# Altium footprint library Module.PcbLib: 12 footprints
Each footprint in its own frame and in the unit in brackets; x right, y up, seen from the top. Pads: shape width x height; smd on the part's side, far side on the other; paste and mask are expansions set on the pad; w line width, h text height; cw(c..) or ccw(c..) is an arc to the next point about the centre after c.
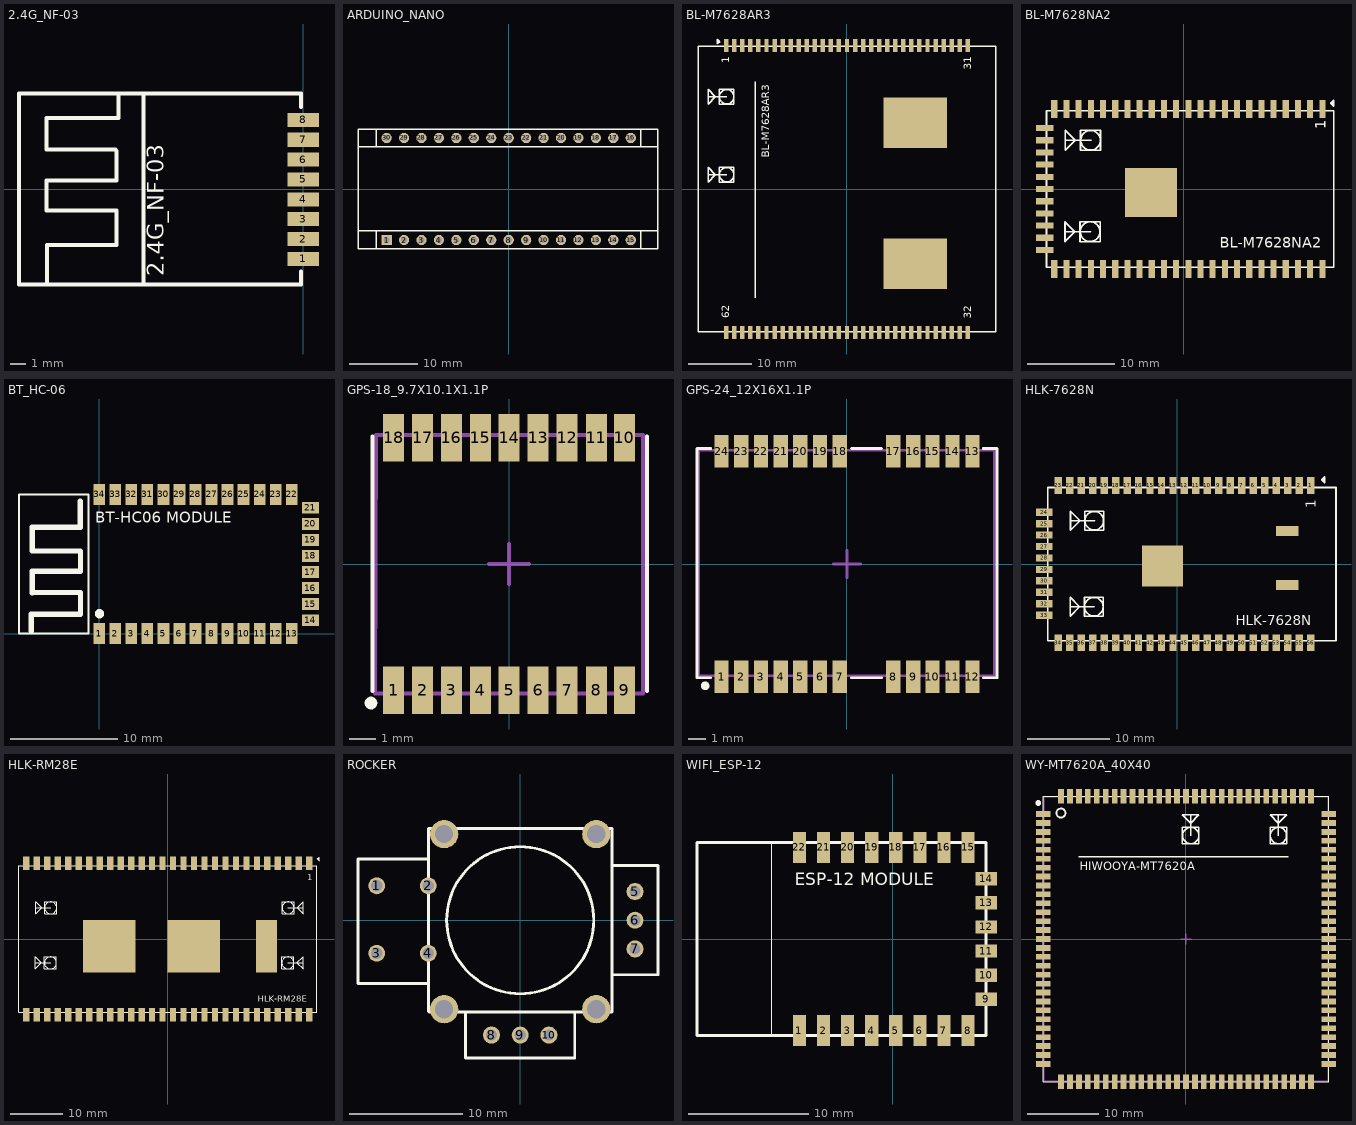
[diagram p0: the footprints below, top view; thin cyan lines are the x and y axes]

## 2.4G_NF-03 [mm] "NRF4L01+ Module"
pads (8):
  rect 2x0.9 smd: 1(0,-4.445) 2(0,-3.175) 3(0,-1.905) 4(0,-0.635) 5(0,0.635) 6(0,1.905) 7(0,3.175) 8(0,4.445)
Top Overlay:
  lines w0.254: -16.408,-6.02 -16.408,-3.556 -11.938,-3.556 -11.938,-1.346 -16.434,-1.346 -16.434,0.559 -11.938,0.559 -11.938,2.464 -12.014,2.54 -16.434,2.54 -16.434,4.572 -11.836,4.572 -11.836,6.121 ; -10.211,-6.071 -10.211,6.121 ; -0.152,-5.258 -0.152,-6.071 -18.186,-6.071 -18.186,6.121 -0.152,6.121 -0.152,5.258
  text "2.4G_NF-03" at -8.585,-5.563 h1.8

## ARDUINO_NANO [mm]
pads (30):
  rect 1.5x1.5 hole 0.9: 1(-17.78,-7.429)
  round 1.5 hole 0.9: 2(-15.24,-7.429) 3(-12.7,-7.429) 4(-10.16,-7.429) 5(-7.62,-7.429) 6(-5.08,-7.429) 7(-2.54,-7.429) 8(0,-7.429) 9(2.54,-7.429) 10(5.08,-7.429) 11(7.62,-7.429) 12(10.16,-7.429) 13(12.7,-7.429) 14(15.24,-7.429) 15(17.78,-7.429) 16(17.78,7.429) 17(15.24,7.429) 18(12.7,7.429) 19(10.16,7.429) 20(7.62,7.429) 21(5.08,7.429) 22(2.54,7.429) 23(0,7.429) 24(-2.54,7.429) 25(-5.08,7.429) 26(-7.62,7.429) 27(-10.16,7.429) 28(-12.7,7.429) 29(-15.24,7.429) 30(-17.78,7.429)
Top Overlay:
  lines w0.2: -21.946,-8.7 -19.05,-8.7 19.05,-8.7 21.742,-8.7 ; -21.946,8.7 -17.145,8.7 21.742,8.7
  lines w0.203: -21.946,-8.7 -21.946,8.7 ; -21.946,-6.058 21.742,-6.058 ; -21.946,6.134 21.742,6.134 ; -19.279,-8.7 -19.279,-6.058 ; -19.279,6.134 -19.279,8.7 ; 19.202,-8.7 19.202,-6.058 ; 19.202,6.134 19.202,8.7 ; 21.742,-8.7 21.742,8.7

## BL-M7628AR3 [mm]
pads (64):
  rect 0.7x2.035 smd: 1(-19.05,22.65) 2(-17.78,22.65) 3(-16.51,22.65) 4(-15.24,22.65) 5(-13.97,22.65) 6(-12.7,22.65) 7(-11.43,22.65) 8(-10.16,22.65) 9(-8.89,22.65) 10(-7.62,22.65) 11(-6.35,22.65) 12(-5.08,22.65) 13(-3.81,22.65) 14(-2.54,22.65) 15(-1.27,22.65) 16(0,22.65) 17(1.27,22.65) 18(2.54,22.65) 19(3.81,22.65) 20(5.08,22.65) 21(6.35,22.65) 22(7.62,22.65) 23(8.89,22.65) 24(10.16,22.65) 25(11.43,22.65) 26(12.7,22.65) 27(13.97,22.65) 28(15.24,22.65) 29(16.51,22.65) 30(17.78,22.65) 31(19.05,22.65) 32(19.05,-22.65) 33(17.78,-22.65) 34(16.51,-22.65) 35(15.24,-22.65) 36(13.97,-22.65) 37(12.7,-22.65) 38(11.43,-22.65) 39(10.16,-22.65) 40(8.89,-22.65) 41(7.62,-22.65) 42(6.35,-22.65) 43(5.08,-22.65) 44(3.81,-22.65) 45(2.54,-22.65) 46(1.27,-22.65) 47(0,-22.65) 48(-1.27,-22.65) 49(-2.54,-22.65) 50(-3.81,-22.65) 51(-5.08,-22.65) 52(-6.35,-22.65) 53(-7.62,-22.65) 54(-8.89,-22.65) 55(-10.16,-22.65) 56(-11.43,-22.65) 57(-12.7,-22.65) 58(-13.97,-22.65) 59(-15.24,-22.65) 60(-16.51,-22.65) 61(-17.78,-22.65) 62(-19.05,-22.65)
  rect 10x8 smd: ""(10.75,-11.8) ""(10.75,10.45)
Top Overlay:
  circle w0.203: c-19,14.55 r1.131
  circle w0.203: c-19,2.25 r1.131
  region: -20.45,23.45 -20.45,23.1 -20.25,23.1 -20.1,23.25 -20.275,23.425
  lines w0.203: -18.95,2.25 -21.9,2.25 ; -18.95,14.55 -21.9,14.55 ; -14.45,-17.15 -14.45,16.9 ; -21.9,2.25 -21.9,3.4 -20.75,2.25 -21.9,1.1 -21.9,2.25 ; -21.9,14.55 -21.9,13.4 -20.75,14.55 -21.9,15.7 -21.9,14.55 ; -23.5,-22.5 -23.5,22.5 23.5,22.5 23.5,-22.5 -23.5,-22.5 ; -20.45,22.9 -20.1,23.25 -20.45,23.6 -20.45,22.9 ; -20.15,1.1 -19,1.1 -17.85,1.1 -17.85,3.4 -20.15,3.4 -20.15,1.1 ; -20.15,13.4 -20.15,15.7 -17.85,15.7 -17.85,13.4 -19,13.4 -20.15,13.4
  text "BL-M7628AR3" at -12.25,4.9 h1.2
  text "62" at -18.6,-20.4 h1.2
  text "32" at 19.6,-20.463 h1.2
  text "31" at 19.6,18.8 h1.2
  text "1" at -18.6,19.868 h1.2

## BL-M7628NA2 [mm]
pads (58):
  rect 0.7x2.035 smd: 1(15.954,9.197) 2(14.531,9.197) 3(13.131,9.197) 4(11.731,9.197) 5(10.331,9.197) 6(8.931,9.197) 7(7.531,9.197) 8(6.131,9.197) 9(4.731,9.197) 10(3.331,9.197) 11(1.931,9.197) 12(0.531,9.197) 13(-0.869,9.197) 14(-2.269,9.197) 15(-3.669,9.197) 16(-5.069,9.197) 17(-6.469,9.197) 18(-7.869,9.197) 19(-9.269,9.197) 20(-10.669,9.197) 21(-12.069,9.197) 22(-13.469,9.197) 23(-14.869,9.197) 35(-14.869,-9.197) 36(-13.469,-9.197) 37(-12.069,-9.197) 38(-10.669,-9.197) 39(-9.269,-9.197) 40(-7.869,-9.197) 41(-6.469,-9.197) 42(-5.069,-9.197) 43(-3.669,-9.197) 44(-2.269,-9.197) 45(-0.869,-9.197) 46(0.531,-9.197) 47(1.931,-9.197) 48(3.331,-9.197) 49(4.731,-9.197) 50(6.131,-9.197) 51(7.531,-9.197) 52(8.931,-9.197) 53(10.331,-9.197) 54(11.731,-9.197) 55(13.131,-9.197) 56(14.531,-9.197) 57(15.954,-9.197)
  rect 2.035x0.7 smd: 24(-15.954,6.997) 25(-15.954,5.597) 26(-15.954,4.197) 27(-15.954,2.797) 28(-15.954,1.397) 29(-15.954,-0.003) 30(-15.954,-1.403) 31(-15.954,-2.803) 32(-15.954,-4.203) 33(-15.954,-5.603) 34(-15.954,-7.003)
  rect 6x5.6 smd: ""(-3.75,-0.4)
Top Overlay:
  circle w0.203: c-10.75,-4.9 r1.131
  circle w0.203: c-10.7,5.6 r1.131
  region: 17.25,9.65 17.25,10 17.05,10 16.9,9.85 17.075,9.675
  lines w0.203: -10.7,-4.9 -13.65,-4.9 ; -10.65,5.6 -13.6,5.6 ; -13.65,-4.9 -13.65,-6.05 -12.5,-4.9 -13.65,-3.75 -13.65,-4.9 ; -13.6,5.6 -13.6,4.45 -12.45,5.6 -13.6,6.75 -13.6,5.6 ; -15.754,-9.003 17.246,-9.003 17.246,9.003 -15.754,9.003 -15.754,-9.003 ; -11.9,-6.05 -11.9,-3.75 -9.6,-3.75 -9.6,-6.05 -10.75,-6.05 -11.9,-6.05 ; -11.85,4.45 -11.85,6.75 -9.55,6.75 -9.55,4.45 -10.7,4.45 -11.85,4.45 ; 16.9,9.85 17.25,10.2 17.25,9.5 16.9,9.85
  text "1" at 16.3,6.868 h1.2
  text "BL-M7628NA2" at 4.15,-6.75 h1.2

## BT_HC-06 [mm]
pads (34):
  rect 1.1x2 smd: 1(0,0) 2(1.5,0) 3(3,0) 4(4.5,0) 5(6,0) 6(7.5,0) 7(9,0) 8(10.5,0) 9(12,0) 10(13.5,0) 11(15,0) 12(16.5,0) 13(18,0) 22(18,13) 23(16.5,13) 24(15,13) 25(13.5,13) 26(12,13) 27(10.5,13) 28(9,13) 29(7.5,13) 30(6,13) 31(4.5,13) 32(3,13) 33(1.5,13) 34(0,13)
  rect 1.6x1.1 smd: 14(19.75,1.25) 15(19.75,2.75) 16(19.75,4.25) 17(19.75,5.75) 18(19.75,7.25) 19(19.75,8.75) 20(19.75,10.25) 21(19.75,11.75)
Top Overlay:
  circle w0.5: c0.025,1.852 r0.18
  lines w0.152: -7.5,0 -1,0 -1,13 -7.5,13 -7.5,0
  lines w0.5: -6.35,0.229 -6.35,1.803 -1.753,1.803 -1.753,3.835 -6.248,3.81 -6.248,5.817 -1.753,5.817 -1.753,7.722 -6.248,7.722 -6.248,9.931 -1.778,9.931 -1.778,12.395
  text "BT-HC06 MODULE" at -0.381,10.338 h1.02
3D body "User Library-Bluetooth HC-06_.step": height 2.35, standoff 0, extent -8.29,-0.508 19.72,13.512

## GPS-18_9.7X10.1X1.1P [mm]
height 2.4
pads (18):
  rect 0.8x1.8 smd: 1(-4.394,-4.813) 2(-3.294,-4.813) 3(-2.193,-4.813) 4(-1.092,-4.813) 5(0.008,-4.813) 6(1.109,-4.813) 7(2.21,-4.813) 8(3.327,-4.813) 9(4.394,-4.813) 10(4.394,4.813) 11(3.327,4.813) 12(2.21,4.813) 13(1.109,4.813) 14(0.008,4.813) 15(-1.092,4.813) 16(-2.193,4.813) 17(-3.294,4.813) 18(-4.394,4.813)
Top Overlay:
  circle w0.254: c-5.258,-5.296 r0.114
  lines w0.152: -5.207,-4.839 -5.207,4.861 ; 5.258,-4.839 5.258,4.861
Mechanical 13:
  lines w0.152: -5.105,-4.94 5.105,-4.94 5.105,4.915 -5.075,4.915 -5.105,-4.94
Mechanical 15:
  lines w0.152: -0.762,0 0.762,0 ; 0,-0.762 0,0.762
3D body "User Library-MAX-M8 u-blox M8 Concurrent GNSS Module.step": height 2.5, standoff 0, extent -5.075,-4.864 5.025,4.838

## GPS-24_12X16X1.1P [mm]
height 2.4
pads (24):
  rect 0.8x1.8 smd: 1(-7.01,-6.299) 2(-5.91,-6.299) 3(-4.809,-6.299) 4(-3.708,-6.299) 5(-2.608,-6.299) 6(-1.507,-6.299) 7(-0.406,-6.299) 8(2.591,-6.299) 9(3.708,-6.299) 10(4.775,-6.299) 11(5.893,-6.299) 12(7.01,-6.299) 13(7.01,6.299) 14(5.893,6.299) 15(4.775,6.299) 16(3.708,6.299) 17(2.591,6.299) 18(-0.406,6.299) 19(-1.507,6.299) 20(-2.608,6.299) 21(-3.708,6.299) 22(-4.809,6.299) 23(-5.91,6.299) 24(-7.01,6.299)
Top Overlay:
  circle w0.254: c-7.925,-6.807 r0.114
  lines w0.152: -7.62,-6.35 -8.382,-6.35 -8.382,-5.588 -8.382,5.588 -8.382,6.452 -7.62,6.452 ; 0.254,-6.35 1.93,-6.35 ; 0.254,6.452 1.93,6.452 ; 7.62,-6.35 8.382,-6.35 8.382,6.452 7.62,6.452
Mechanical 13:
  lines w0.152: -8.28,-6.248 -8.28,6.35 8.23,6.35 8.23,-6.248 -8.28,-6.248
Mechanical 15:
  lines w0.152: -0.762,0 0.762,0 ; 0,-0.762 0,0.762
3D body "User Library-UBLOX_GPS_NEO-6M.step": height 2.64, standoff 0, extent -8.3,-6.129 8.3,6.231

## HLK-7628N [mm]
pads (59):
  rect 0.9x2.035 smd: 1(16.25,9.6) 2(14.85,9.6) 3(13.45,9.6) 4(12.05,9.6) 5(10.65,9.6) 6(9.25,9.6) 7(7.85,9.6) 8(6.45,9.6) 9(5.05,9.6) 10(3.65,9.6) 11(2.25,9.6) 12(0.85,9.6) 13(-0.55,9.6) 14(-1.95,9.6) 15(-3.35,9.6) 16(-4.75,9.6) 17(-6.15,9.6) 18(-7.55,9.6) 19(-8.95,9.6) 20(-10.35,9.6) 21(-11.75,9.6) 22(-13.15,9.6) 23(-14.55,9.6) 34(-14.55,-9.6) 35(-13.15,-9.6) 36(-11.75,-9.6) 37(-10.35,-9.6) 38(-8.95,-9.6) 39(-7.55,-9.6) 40(-6.15,-9.6) 41(-4.75,-9.6) 42(-3.35,-9.6) 43(-1.95,-9.6) 44(-0.55,-9.6) 45(0.85,-9.6) 46(2.25,-9.6) 47(3.65,-9.6) 48(5.05,-9.6) 49(6.45,-9.6) 50(7.85,-9.6) 51(9.25,-9.6) 52(10.65,-9.6) 53(12.05,-9.6) 54(13.45,-9.6) 55(14.85,-9.6) 56(16.25,-9.6)
  rect 2.035x0.9 smd: 24(-16.25,6.35) 25(-16.25,4.95) 26(-16.25,3.55) 27(-16.25,2.15) 28(-16.25,0.75) 29(-16.25,-0.65) 30(-16.25,-2.05) 31(-16.25,-3.45) 32(-16.25,-4.85) 33(-16.25,-6.25)
  rect 5x5 smd: ""(-1.85,-0.25)
  rect 2.7x1.2 smd: ""(13.4,-2.55) ""(13.4,4.05)
Top Overlay:
  circle w0.203: c-10.2,-5.2 r1.131
  circle w0.203: c-10.15,5.3 r1.131
  region: 17.95,10.1 17.95,10.45 17.75,10.45 17.6,10.3 17.775,10.125
  lines w0.203: -10.15,-5.2 -13.1,-5.2 ; -10.1,5.3 -13.05,5.3 ; -13.1,-5.2 -13.1,-6.35 -11.95,-5.2 -13.1,-4.05 -13.1,-5.2 ; -13.05,5.3 -13.05,4.15 -11.9,5.3 -13.05,6.45 -13.05,5.3 ; -15.85,-9.35 19.35,-9.35 19.35,9.35 -15.85,9.35 -15.85,-9.35 ; -11.35,-6.35 -11.35,-4.05 -9.05,-4.05 -9.05,-6.35 -10.2,-6.35 -11.35,-6.35 ; -11.3,4.15 -11.3,6.45 -9,6.45 -9,4.15 -10.15,4.15 -11.3,4.15 ; 17.6,10.3 17.95,10.65 17.95,9.95 17.6,10.3
  text "1" at 16.85,6.85 h1.2
  text "HLK-7628N" at 7.1,-7.45 h1.2

## HLK-RM28E [mm]
pads (59):
  rect 1.2x2.5 smd: 1(27,14.45) 2(25,14.45) 3(23,14.45) 4(21,14.45) 5(19,14.45) 6(17,14.45) 7(15,14.45) 8(13,14.45) 9(11,14.45) 10(9,14.45) 11(7,14.45) 12(5,14.45) 13(3,14.45) 14(1,14.45) 15(-1,14.45) 16(-3,14.45) 17(-5,14.45) 18(-7,14.45) 19(-9,14.45) 20(-11,14.45) 21(-13,14.45) 22(-15,14.45) 23(-17,14.45) 24(-19,14.45) 25(-21,14.45) 26(-23,14.45) 27(-25,14.45) 28(-27,14.45) 29(-27,-14.45) 30(-25,-14.45) 31(-23,-14.45) 32(-21,-14.45) 33(-19,-14.45) 34(-17,-14.45) 35(-15,-14.45) 36(-13,-14.45) 37(-11,-14.45) 38(-9,-14.45) 39(-7,-14.45) 40(-5,-14.45) 41(-3,-14.45) 42(-1,-14.45) 43(1,-14.45) 44(3,-14.45) 45(5,-14.45) 46(7,-14.45) 47(9,-14.45) 48(11,-14.45) 49(13,-14.45) 50(15,-14.45) 51(17,-14.45) 52(19,-14.45) 53(21,-14.45) 54(23,-14.45) 55(25,-14.45) 56(27,-14.45)
  rect 10x10 smd: ""(-11.15,-1.4) ""(4.95,-1.4)
  rect 4x10 smd: ""(18.85,-1.4)
Top Overlay:
  circle w0.203: c22.9,-4.55 r1.131
  circle w0.203: c22.95,5.95 r1.131
  circle w0.203: c-22.35,5.95 r1.131
  circle w0.203: c-22.4,-4.55 r1.131
  region: 28.85,15.075 28.85,15.425 28.65,15.425 28.5,15.275 28.675,15.1
  lines w0.203: -22.35,-4.55 -25.3,-4.55 ; -22.3,5.95 -25.25,5.95 ; 22.85,-4.55 25.8,-4.55 ; 22.9,5.95 25.85,5.95 ; -25.3,-4.55 -25.3,-3.4 -24.15,-4.55 -25.3,-5.7 -25.3,-4.55 ; -25.25,5.95 -25.25,7.1 -24.1,5.95 -25.25,4.8 -25.25,5.95 ; 25.8,-4.55 25.8,-5.7 24.65,-4.55 25.8,-3.4 25.8,-4.55 ; 25.85,5.95 25.85,4.8 24.7,5.95 25.85,7.1 25.85,5.95 ; -28.4,-14 -28.4,14 28.4,14 28.4,-14 -28.4,-14 ; -23.55,-5.7 -22.4,-5.7 -21.25,-5.7 -21.25,-3.4 -23.55,-3.4 -23.55,-5.7 ; -23.5,4.8 -22.35,4.8 -21.2,4.8 -21.2,7.1 -23.5,7.1 -23.5,4.8 ; 21.75,-5.7 24.05,-5.7 24.05,-3.4 22.9,-3.4 21.75,-3.4 21.75,-5.7 ; 21.8,4.8 24.1,4.8 24.1,7.1 22.95,7.1 21.8,7.1 21.8,4.8 ; 28.5,15.275 28.85,14.925 28.85,15.625 28.5,15.275
  text "1" at 26.6,11.25 h1.2
  text "HLK-RM28E" at 17.15,-12 h1.2

## ROCKER [mm]
pads (14):
  round 1.5 hole 1: 1(-12.701,3.047) 2(-8.129,3.047) 3(-12.701,-2.922) 4(-8.129,-2.922) 5(10.16,2.54) 6(10.16,0) 7(10.16,-2.54) 8(-2.54,-10.16) 9(0,-10.16) 10(2.54,-10.16)
  round 2.5 hole 1.6: ""(-6.732,-7.875) ""(-6.732,7.619) ""(6.73,-7.875) ""(6.73,7.619)
Top Overlay:
  circle w0.254: c0,0 r6.506
  lines w0.254: -8.152,-5.589 -14.352,-5.589 -14.352,5.412 -8.152,5.412 ; -8.129,-8.072 -8.129,8.126 ; -8.127,8.127 8.127,8.127 8.127,-8.127 ; -8.072,-8.129 8.125,-8.129 ; -4.827,-8.193 -4.827,-12.193 4.825,-12.193 4.825,-8.193 ; -0.001,-8.129 0,-8.127 ; 8.191,-4.827 12.191,-4.827 12.191,4.825 8.191,4.825
3D body "User Library-Joystick_Asm_Left.STEP": height 28.61, standoff -3, extent -15.042,-13.222 13.169,13.076

## WIFI_ESP-12 [mm]
pads (22):
  rect 1.1x2.6 smd: 1(-7.75,-7.6) 2(-5.75,-7.6) 3(-3.75,-7.6) 4(-1.75,-7.6) 5(0.25,-7.6) 6(2.25,-7.6) 7(4.25,-7.6) 8(6.25,-7.6) 15(6.25,7.6) 16(4.25,7.6) 17(2.25,7.6) 18(0.25,7.6) 19(-1.75,7.6) 20(-3.75,7.6) 21(-5.75,7.6) 22(-7.75,7.6)
  rect 1.8x1.1 smd: 9(7.75,-5) 10(7.75,-3) 11(7.75,-1) 12(7.75,1) 13(7.75,3) 14(7.75,5)
Top Overlay:
  lines w0.1: -10.05,-8 -10.05,8
  lines w0.254: -16.25,-8 7.75,-8 7.75,8 -16.25,8 -16.25,-8
  text "ESP-12 MODULE" at -8.128,4.445 h1.02
3D body "User Library-EPS8266 ESP-12E.step": height 2.65, standoff -0.04, extent -16.318,-8.005 7.687,8.005

## WY-MT7620A_40X40 [mm]
pads (116):
  rect 2.035x0.8 smd: 1(-20,17.5) 2(-20,16.25) 3(-20,15) 4(-20,13.75) 5(-20,12.5) 6(-20,11.25) 7(-20,10) 8(-20,8.75) 9(-20,7.5) 10(-20,6.25) 11(-20,5) 12(-20,3.75) 13(-20,2.5) 14(-20,1.25) 15(-20,0) 16(-20,-1.25) 17(-20,-2.5) 18(-20,-3.75) 19(-20,-5) 20(-20,-6.25) 21(-20,-7.5) 22(-20,-8.75) 23(-20,-10) 24(-20,-11.25) 25(-20,-12.5) 26(-20,-13.75) 27(-20,-15) 28(-20,-16.25) 29(-20,-17.5) 59(20,-17.5) 60(20,-16.25) 61(20,-15) 62(20,-13.75) 63(20,-12.5) 64(20,-11.25) 65(20,-10) 66(20,-8.75) 67(20,-7.5) 68(20,-6.25) 69(20,-5) 70(20,-3.75) 71(20,-2.5) 72(20,-1.25) 73(20,0) 74(20,1.25) 75(20,2.5) 76(20,3.75) 77(20,5) 78(20,6.25) 79(20,7.5) 80(20,8.75) 81(20,10) 82(20,11.25) 83(20,12.5) 84(20,13.75) 85(20,15) 86(20,16.25) 87(20,17.5)
  rect 0.8x2.035 smd: 30(-17.5,-20) 31(-16.25,-20) 32(-15,-20) 33(-13.75,-20) 34(-12.5,-20) 35(-11.25,-20) 36(-10,-20) 37(-8.75,-20) 38(-7.5,-20) 39(-6.25,-20) 40(-5,-20) 41(-3.75,-20) 42(-2.5,-20) 43(-1.25,-20) 44(0,-20) 45(1.25,-20) 46(2.5,-20) 47(3.75,-20) 48(5,-20) 49(6.25,-20) 50(7.5,-20) 51(8.75,-20) 52(10,-20) 53(11.25,-20) 54(12.5,-20) 55(13.75,-20) 56(15,-20) 57(16.25,-20) 58(17.5,-20) 88(17.5,20) 89(16.25,20) 90(15,20) 91(13.75,20) 92(12.5,20) 93(11.25,20) 94(10,20) 95(8.75,20) 96(7.5,20) 97(6.25,20) 98(5,20) 99(3.75,20) 100(2.5,20) 101(1.25,20) 102(0,20) 103(-1.25,20) 104(-2.5,20) 105(-3.75,20) 106(-5,20) 107(-6.25,20) 108(-7.5,20) 109(-8.75,20) 110(-10,20) 111(-11.25,20) 112(-12.5,20) 113(-13.75,20) 114(-15,20) 115(-16.25,20) 116(-17.5,20)
Top Overlay:
  circle w0.254: c-20.701,19.054 r0.284
  circle w0.254: c-17.526,17.653 r0.635
  circle w0.203: c12.95,14.5 r1.131
  circle w0.203: c0.65,14.5 r1.131
  rectangle: -20.955,18.8 -20.447,19.308
  lines w0.152: -20,-20 -20,20 20,20 20,-20 -20,-20
  lines w0.203: -15,11.55 14.35,11.55 ; 0.65,14.45 0.65,17.4 ; 12.95,14.45 12.95,17.4 ; 0.65,17.4 1.8,17.4 0.65,16.25 -0.5,17.4 0.65,17.4 ; 12.95,17.4 11.8,17.4 12.95,16.25 14.1,17.4 12.95,17.4 ; -0.5,13.35 1.8,13.35 1.8,15.65 -0.5,15.65 -0.5,14.5 -0.5,13.35 ; 11.8,13.35 11.8,14.5 11.8,15.65 14.1,15.65 14.1,13.35 11.8,13.35
  text "HIWOOYA-MT7620A" at -14.9,9.6 h1.2
Mechanical 13:
  lines w0.203: -19.939,-19.939 -19.939,19.939 19.939,19.939 19.939,-19.939 -19.939,-19.939
Mechanical 15:
  lines w0.203: -0.762,0 0.762,0 ; 0,-0.762 0,0.762